# Altium schematic symbol library Main_Board.SchLib: 29 symbols
Pins are listed as number, name and electrical type; pins without a type are passive.

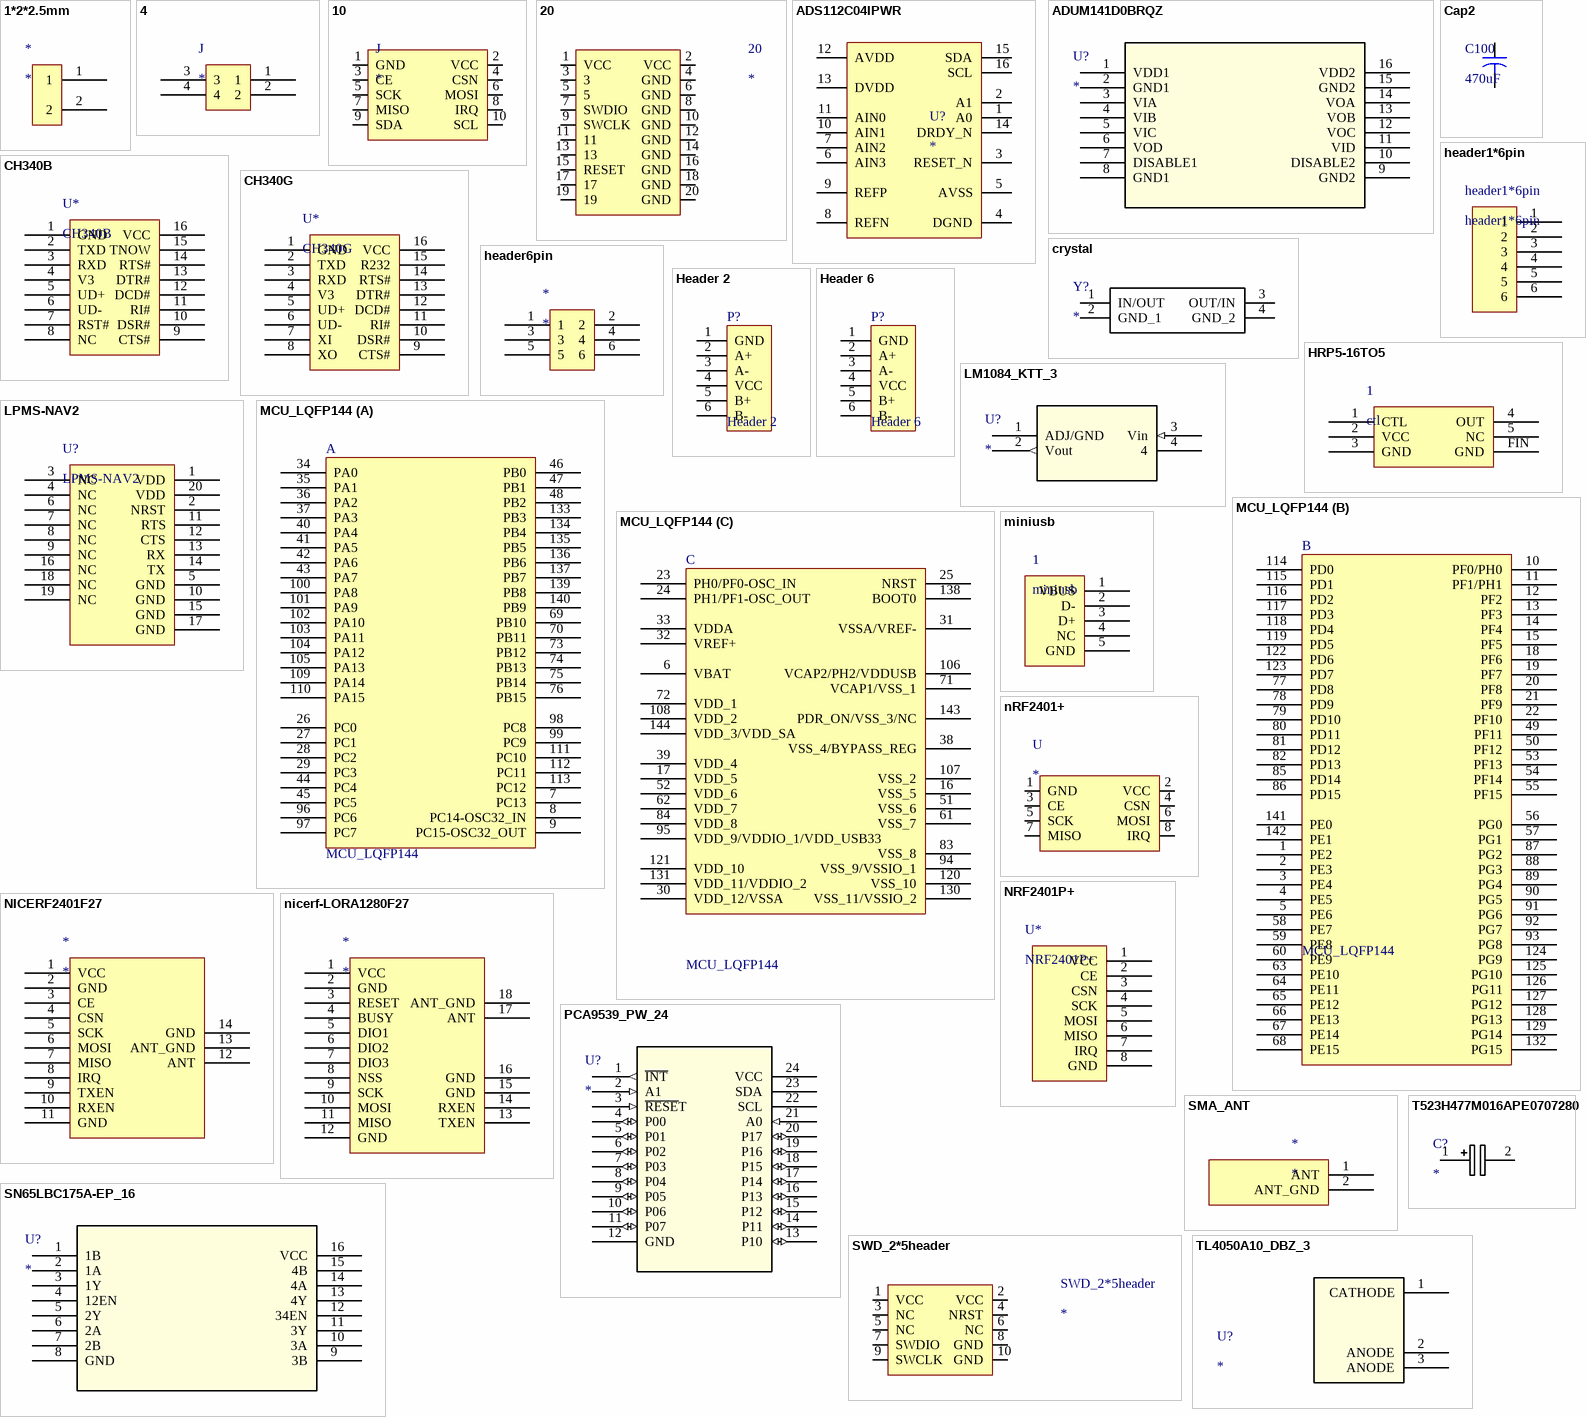
[diagram p0: symbols 1*2*2.5mm to TL4050A10_DBZ_3]

## 1*2*2.5mm
designator *
footprint 1*2_2.5mm
pins: 1, 2

## 4
designator J
footprint 4
pins: 1, 2, 3, 4

## 10
designator J
footprint 10
pins: 1 GND, 2 VCC, 3 CE, 4 CSN, 5 SCK, 6 MOSI, 7 MISO, 8 IRQ, 9 SDA, 10 SCL

## 20
designator 20
pins: 1 VCC, 2 VCC, 3, 4 GND, 5, 6 GND, 7 SWDIO, 8 GND, 9 SWCLK, 10 GND, 11, 12 GND, 13, 14 GND, 15 RESET, 16 GND, 17, 18 GND, 19, 20 GND

## ADS112C04IPWR
designator U?
Imported; PartNumber: ADS112C04IPWR; Manufacturer: Texas Instruments; RefDes: RefDes; Type: DEV; Value: Value
footprint PW0016A_N
pins: 1 A0, 2 A1, 3 RESET_N, 4 DGND, 5 AVSS, 6 AIN3, 7 AIN2, 8 REFN, 9 REFP, 10 AIN1, 11 AIN0, 12 AVDD, 13 DVDD, 14 DRDY_N, 15 SDA, 16 SCL

## ADUM141D0BRQZ
designator U?
Imported; RefDes: RefDes; Type: DEV; Value: Value
footprint RQ_16
pins: 1 VDD1, 2 GND1, 3 VIA, 4 VIB, 5 VIC, 6 VOD, 7 DISABLE1, 8 GND1, 9 GND2, 10 DISABLE2, 11 VID, 12 VOC, 13 VOB, 14 VOA, 15 GND2, 16 VDD2

## Cap2
designator C100, comment 470uF
Capacitor; Published: 23-Sep-2002; Publisher: Altium Limited
simulation model CAP (Capacitor)
signal-integrity model Cap
footprint CAPPM7360X200N (470uF贴片)
pins: 1, 2

## CH340B
designator U*
footprint SOP16 (SN65LBC175A-EP)
pins: 1 GND, 2 TXD, 3 RXD, 4 V3, 5 UD+, 6 UD-, 7 RST#, 8 NC, 9 CTS#, 10 DSR#, 11 RI#, 12 DCD#, 13 DTR#, 14 RTS#, 15 TNOW, 16 VCC

## CH340G
designator U*
footprint SOP16 (SN65LBC175A-EP)
pins: 1 GND, 2 TXD, 3 RXD, 4 V3, 5 UD+, 6 UD-, 7 XI, 8 XO, 9 CTS#, 10 DSR#, 11 RI#, 12 DCD#, 13 DTR#, 14 RTS#, 15 R232, 16 VCC

## crystal
designator Y?
Crystal or Oscillator; Manufacturer_Name: ECS; Manufacturer_Part_Number: ECS-80-18-30B-AGN-TR; Datasheet Link: http://www.ecsxtal.com/store/pdf/ecx_53b.pdf; Height: 0.85mm; Mouser Part Number: 520-80-18-30B-AGNT; Mouser Price/Stock: https://www.mouser.com/Search/Refine.aspx?Keyword=520-80-18-30B-AGNT
footprint ECS801830BAGNTR
pins: 1 IN/OUT, 2 GND_1, 3 OUT/IN, 4 GND_2

## header1*6pin
designator header1*6pin
footprint 1*6_2.5mm
pins: 1, 2, 3, 4, 5, 6

## header6pin
designator *
footprint 2*3_2.5mm
pins: 1, 2, 3, 4, 5, 6

## Header 2
designator P?
Header, 2-Pin; LatestRevisionDate: 17-Jul-2002; LatestRevisionNote: Re-released for DXP Platform.; Publisher: Altium Limited
pins: 1 GND, 2 A+, 3 A-, 4 VCC, 5 B+, 6 B-

## Header 6
designator P?
Header, 6-Pin; LatestRevisionDate: 17-Jul-2002; LatestRevisionNote: Re-released for DXP Platform.; Publisher: Altium Limited
footprint Header_6P - WF2512 (Used for Motor connecter in ZJUNlict)
pins: 1 GND, 2 A+, 3 A-, 4 VCC, 5 B+, 6 B-

## HRP5-16TO5
designator 1, comment ctl
footprint HRP5_16TO5
pins: 1 CTL, 2 VCC, 3 GND, 4 OUT, 5 NC, FIN GND

## LM1084_KTT_3
designator U?
Imported; PartNumber: LM1084IS-33; Comp: TypeLDO; Vendor: NationalSemiconductor; base_pn: LM1084; Symbol: NameLM1084IS-33; Library: ReferenceLM1084IS; Type: DEV; Version: 1; Pin: Count3; RefDes: RefDes; Value: Value
footprint TS3B-M
pins: 1 ADJ/GND, 2 Vout (out), 3 Vin (in), 4

## LPMS-NAV2
designator U?
footprint LPMS-NAV2
pins: 1 VDD, 2 NRST, 3 NC, 4 NC, 5 GND, 6 NC, 7 NC, 8 NC, 9 NC, 10 GND, 11 RTS, 12 CTS, 13 RX, 14 TX, 15 GND, 16 NC, 17 GND, 18 NC, 19 NC, 20 VDD

## MCU_LQFP144
designator ?
footprint LQFP144_0R5_SKT (32-bit MCU ARM-based Cortex-M3 20 X 20mm, 0.5mm Pitch, 1.6mm Max thickness)
part A pins: 7 PC13, 8 PC14-OSC32_IN, 9 PC15-OSC32_OUT, 26 PC0, 27 PC1, 28 PC2, 29 PC3, 34 PA0, 35 PA1, 36 PA2, 37 PA3, 40 PA4, 41 PA5, 42 PA6, 43 PA7, 44 PC4, 45 PC5, 46 PB0, 47 PB1, 48 PB2, 69 PB10, 70 PB11, 73 PB12, 74 PB13, 75 PB14, 76 PB15, 96 PC6, 97 PC7, 98 PC8, 99 PC9, 100 PA8, 101 PA9, 102 PA10, 103 PA11, 104 PA12, 105 PA13, 109 PA14, 110 PA15, 111 PC10, 112 PC11, 113 PC12, 133 PB3, 134 PB4, 135 PB5, 136 PB6, 137 PB7, 139 PB8, 140 PB9
part B pins: 1 PE2, 2 PE3, 3 PE4, 4 PE5, 5 PE6, 10 PF0/PH0, 11 PF1/PH1, 12 PF2, 13 PF3, 14 PF4, 15 PF5, 18 PF6, 19 PF7, 20 PF8, 21 PF9, 22 PF10, 49 PF11, 50 PF12, 53 PF13, 54 PF14, 55 PF15, 56 PG0, 57 PG1, 58 PE7, 59 PE8, 60 PE9, 63 PE10, 64 PE11, 65 PE12, 66 PE13, 67 PE14, 68 PE15, 77 PD8, 78 PD9, 79 PD10, 80 PD11, 81 PD12, 82 PD13, 85 PD14, 86 PD15, 87 PG2, 88 PG3, 89 PG4, 90 PG5, 91 PG6, 92 PG7, 93 PG8, 114 PD0, 115 PD1, 116 PD2, 117 PD3, 118 PD4, 119 PD5, 122 PD6, 123 PD7, 124 PG9, 125 PG10, 126 PG11, 127 PG12, 128 PG13, 129 PG14, 132 PG15, 141 PE0, 142 PE1
part C pins: 6 VBAT, 16 VSS_5, 17 VDD_5, 23 PH0/PF0-OSC_IN, 24 PH1/PF1-OSC_OUT, 25 NRST, 30 VDD_12/VSSA, 31 VSSA/VREF-, 32 VREF+, 33 VDDA, 38 VSS_4/BYPASS_REG, 39 VDD_4, 51 VSS_6, 52 VDD_6, 61 VSS_7, 62 VDD_7, 71 VCAP1/VSS_1, 72 VDD_1, 83 VSS_8, 84 VDD_8, 94 VSS_9/VSSIO_1, 95 VDD_9/VDDIO_1/VDD_USB33, 106 VCAP2/PH2/VDDUSB, 107 VSS_2, 108 VDD_2, 120 VSS_10, 121 VDD_10, 130 VSS_11/VSSIO_2, 131 VDD_11/VDDIO_2, 138 BOOT0, 143 PDR_ON/VSS_3/NC, 144 VDD_3/VDD_SA

## miniusb
designator 1
footprint miniusb 180
pins: 1 VBUS, 2 D-, 3 D+, 4 NC, 5 GND

## NICERF2401F27
designator *
footprint NICERF2401F27
pins: 1 VCC, 2 GND, 3 CE, 4 CSN, 5 SCK, 6 MOSI, 7 MISO, 8 IRQ, 9 TXEN, 10 RXEN, 11 GND, 12 ANT, 13 ANT_GND, 14 GND

## nicerf-LORA1280F27
designator *
footprint nicerf-LORA1280F27
pins: 1 VCC, 2 GND, 3 RESET, 4 BUSY, 5 DIO1, 6 DIO2, 7 DIO3, 8 NSS, 9 SCK, 10 MOSI, 11 MISO, 12 GND, 13 TXEN, 14 RXEN, 15 GND, 16 GND, 17 ANT, 18 ANT_GND

## nRF2401+
designator U
pins: 1 GND, 2 VCC, 3 CE, 4 CSN, 5 SCK, 6 MOSI, 7 MISO, 8 IRQ

## NRF2401P+
designator U*
footprint NRF2401P+_zeyao
pins: 1 VCC, 2 CE, 3 CSN, 4 SCK, 5 MOSI, 6 MISO, 7 IRQ, 8 GND

## PCA9539_PW_24
designator U?
Remote 16-Bit I2C And SMBus, Low-Power I/O Expander With Interrupt Output, Reset & Config. Registers; Manufacturer_Part_Number: pca9539_pw_24; GENERIC_PART_NUMBER: PCA9539; Vendor: Texas Instruments; PACKAGE_DESIGNATOR: PW; PIN_COUNT: 24; FAMILY_NAME: I2C IO EXPANDER; INDUSTRY_STD_PKG_TYPE: TSSOP; Datasheet_URL: http://www.ti.com/lit/gpn/PCA9539; Manufacturer: Texas Instruments; RefDes: RefDes; Type: DEV; Value: Value
footprint PW24-L_pca9539
pins: 1 ~{INT} (out), 2 A1 (in), 3 ~{RESE}T (in), 4 P00 (io), 5 P01 (io), 6 P02 (io), 7 P03 (io), 8 P04 (io), 9 P05 (io), 10 P06 (io), 11 P07 (io), 12 GND (power), 13 P10 (io), 14 P11 (io), 15 P12 (io), 16 P13 (io), 17 P14 (io), 18 P15 (io), 19 P16 (io), 20 P17 (io), 21 A0 (in), 22 SCL, 23 SDA, 24 VCC (power)

## SMA_ANT
designator *
footprint SMA_ANT
pins: 1 ANT, 2 ANT_GND

## SN65LBC175A-EP_16
designator U?
Quadruple 2-Input Positive-NAND Gates; Manufacturer: Texas Instruments; GENERIC_PART_NUMBER: 74AC11000; INDUSTRY_STD_PKG_TYPE: SOIC; PIN_COUNT: 16; PACKAGE_DESIGNATOR: D; Datasheet_URL: http://www.ti.com/lit/gpn/74AC11000; FAMILY_NAME: NAND GATE; RefDes: RefDes; Type: DEV; Value: Value
footprint SOIC16_L (SN65LBC175A-EP)
pins: 1 1B, 2 1A, 3 1Y, 4 12EN, 5 2Y, 6 2A, 7 2B, 8 GND, 9 3B, 10 3A, 11 3Y, 12 34EN, 13 4Y, 14 4A, 15 4B, 16 VCC (power)

## SWD_2*5header
designator SWD_2*5header
footprint SWD-2*5header
pins: 1 VCC, 2 VCC, 3 NC, 4 NRST, 5 NC, 6 NC, 7 SWDIO, 8 GND, 9 SWCLK, 10 GND

## T523H477M016APE0707280
designator C?
470uF电容贴片; Manufacturer_Name: Kemet; Manufacturer_Part_Number: T523H477M016APE0707280; Datasheet Link: https://api.kemet.com/component-edge/download/datasheet/T523H477M016APE0707280.pdf; Height: 2mm; Mouser Part Number: 80-T523H477M16P070LR; Mouser Price/Stock: https://www.mouser.com/Search/Refine.aspx?Keyword=80-T523H477M16P070LR
footprint CAPPM7360X200N (470uF贴片)
pins: 1 +, 2 -

## TL4050A10_DBZ_3
designator U?
Precision Micropower Shunt Voltage Reference; Manufacturer_Part_Number: tl4050a10_dbz_3; GENERIC_PART_NUMBER: TL4050A10; Vendor: Texas Instruments; PACKAGE_DESIGNATOR: DBZ; PIN_COUNT: 3; INDUSTRY_STD_PKG_TYPE: SOT-23; FAMILY_NAME: SHUNT VOLTAGE REFERENCE; Datasheet_URL: http://www.ti.com/lit/gpn/TL4050A10; Manufacturer: Texas Instruments; RefDes: RefDes; Type: DEV; Value: Value
footprint DBZ3-L
pins: 1 CATHODE, 2 ANODE, 3 ANODE